# Altium footprint library Jump.PcbLib: 5 footprints
Each footprint in its own frame and in the unit in brackets; x right, y up, seen from the top. Pads: shape width x height; smd on the part's side, far side on the other; paste and mask are expansions set on the pad; w line width, h text height; cw(c..) or ccw(c..) is an arc to the next point about the centre after c.
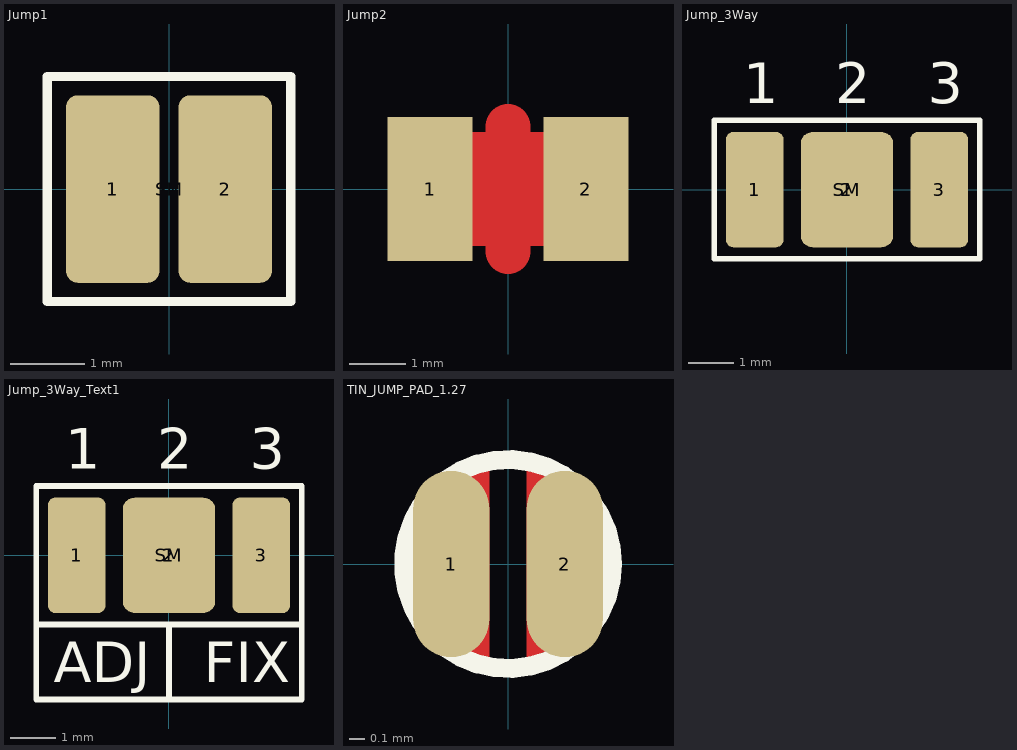
[diagram p0: the footprints below, top view; thin cyan lines are the x and y axes]

## Jump1 [mil] "SMT Battery jumper pads"
pads (3):
  rrect25% 50x100 smd: 1(-30,0) 2(30,0)
  rrect25% 118x108 on Top Solder: SM(0,0)
Top Overlay:
  lines w5: -65,-60 -65,60 65,60 65,-60 -65,-60
Mechanical 13:
  lines w3: -65,-60 -65,60 65,60 65,-60 -65,-60

## Jump2 [mm] "SMT Battery jumper pads"
pads (2):
  rrect1% 1.5x2.54 smd paste-2: 1(-1.373,0) 2(1.373,0)
Top Layer:
  lines w0.8: 0,-1.1 0,1.1
  lines w1: -1,-0.5 1,-0.5 ; -1,0.5 1,0.5
Top Overlay:
  lines w0.127: -0.8,-1.1 -0.8,1.1 ; 0.8,-1.1 0.8,1.1

## Jump_3Way [mil] "SMT Battery jumper pads"
pads (4):
  rrect25% 50x100 smd: 1(-80,0) 3(80,0)
  rrect25% 80x100 smd: 2(0,0)
  rrect25% 218x108 on Top Solder: SM(0,0)
Top Overlay:
  lines w5: -115,-60 115,-60 115,60 -115,60 -115,-60
  text "3" at 70,75 h35
  text "2" at -10,75 h35
  text "1" at -90,75 h35
Mechanical 13:
  lines w3: -115,-60 115,-60 115,60 -115,60 -115,-60

## Jump_3Way_Text1 [mil] "SMT jumper for fixed or variable"
pads (4):
  rrect25% 50x100 smd: 1(-80,0) 3(80,0)
  rrect25% 80x100 smd: 2(0,0)
  rrect25% 218x108 on Top Solder: SM(0,0)
Top Overlay:
  lines w5: 0,-125 0,-60 ; -115,-60 -115,-125 115,-125 115,-60 ; -115,-60 -115,60 115,60 115,-60 ; -115,-60 115,-60
  text "FIX" at 30,-110 h35
  text "ADJ" at -100,-110 h35
  text "1" at -90,75 h35
  text "2" at -10,75 h35
  text "3" at 70,75 h35
Mechanical 13:
  lines w3: -115,-60 -115,60 115,60 115,-60 -115,-60

## TIN_JUMP_PAD_1.27 [mil]
pads (2):
  shape10 20.1x49.03 smd: 1(-14.95,0) 2(14.95,0)
Top Layer:
  region: -4.9,-24.51 -7.01,-24.09 -11.03,-22.54 -14.71,-20.33 -17.97,-17.51 -20.7,-14.19 -22.82,-10.44 -24.26,-6.39 -25,-2.15 -25,2.15 -24.26,6.39 -22.82,10.44 -20.7,14.19 -17.97,17.51 -14.71,20.33 -11.03,22.54 -7.01,24.09 -4.9,24.51
  region: 4.9,-24.51 7.01,-24.09 11.03,-22.54 14.71,-20.33 17.97,-17.51 20.7,-14.19 22.82,-10.44 24.26,-6.39 25,-2.15 25,2.15 24.26,6.39 22.82,10.44 20.7,14.19 17.97,17.51 14.71,20.33 11.03,22.54 7.01,24.09 4.9,24.51
Top Overlay:
  circle w5: c0,0 r27.5